# EAGLE library part DIL16 (library 1A-meinLib)
Dual In Line / Socket
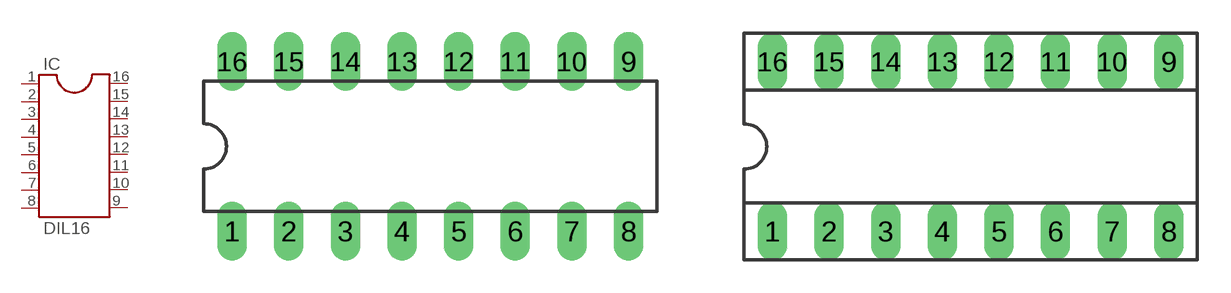
[diagram p396: symbol with the pads of DIL16; footprints DIL16, SOCKET-16]

Designator prefix IC

## DIL16  [DIL16]
1  1  pas
2  2  pas
3  3  pas
4  4  pas
5  5  pas
6  6  pas
7  7  pas
8  8  pas
9  9  pas
10  10  pas
11  11  pas
12  12  pas
13  13  pas
14  14  pas
15  15  pas
16  16  pas

## DIL16S  [SOCKET-16]
Pads as for DIL16

## DIL16QSOP-16  [QSOP_16_PACKAGE]
Pads as for DIL16

## DIL16SOIC-16  [SOIC_16]
Pads as for DIL16

## DIL16QSOP-ADAPTER  [DIL16-ADAPTER-QSOP]
Pads as for DIL16

## DIL16SOIC16-ADAPTER  [DIL16-WIDE]
Pads as for DIL16

## Footprint DIL16 (pad centres in mm)
Dual In Line Package
drill 0.813 long: 1 -8.89,-3.81; 2 -6.35,-3.81; 3 -3.81,-3.81; 4 -1.27,-3.81; 5 1.27,-3.81; 6 3.81,-3.81; 7 6.35,-3.81; 8 8.89,-3.81; 9 8.89,3.81; 10 6.35,3.81; 11 3.81,3.81; 12 1.27,3.81; 13 -1.27,3.81; 14 -3.81,3.81; 15 -6.35,3.81; 16 -8.89,3.81

## Footprint SOCKET-16 (pad centres in mm)
Dual In Line Socket
drill 0.813 long: 1 -8.89,-3.81; 2 -6.35,-3.81; 3 -3.81,-3.81; 4 -1.27,-3.81; 5 1.27,-3.81; 6 3.81,-3.81; 7 6.35,-3.81; 8 8.89,-3.81; 9 8.89,3.81; 10 6.35,3.81; 11 3.81,3.81; 12 1.27,3.81; 13 -1.27,3.81; 14 -3.81,3.81; 15 -6.35,3.81; 16 -8.89,3.81

## Footprint QSOP_16_PACKAGE (pad centres in mm)
Package Outline QSOP, 16 Leads, (E16-1, E16-4, E16-5, E16-8F, E16M-1)
smd 1.6 x 0.356: 1 -2.667,2.223; 2 -2.667,1.587; 3 -2.667,0.953; 4 -2.667,0.318; 5 -2.667,-0.318; 6 -2.667,-0.953; 7 -2.667,-1.587; 8 -2.667,-2.223; 9 2.667,-2.223; 10 2.667,-1.587; 11 2.667,-0.953; 12 2.667,-0.318; 13 2.667,0.318; 14 2.667,0.953; 15 2.667,1.587; 16 2.667,2.223

## Footprint SOIC_16 (pad centres in mm)
smd 0.66 x 2.032: 1 -4.445,-5.105; 2 -3.175,-5.105; 3 -1.905,-5.105; 4 -0.635,-5.105; 5 0.635,-5.105; 6 1.905,-5.105; 7 3.175,-5.105; 8 4.445,-5.105; 9 4.445,5.105; 10 3.175,5.105; 11 1.905,5.105; 12 0.635,5.105; 13 -0.635,5.105; 14 -1.905,5.105; 15 -3.175,5.105; 16 -4.445,5.105

## Footprint DIL16-ADAPTER-QSOP (pad centres in mm)
drill 0.8 round: 1 -7.62,3.81; 2 -5.08,3.81; 3 -7.62,1.27; 4 -5.08,1.27; 5 -7.62,-1.27; 6 -5.08,-1.27; 7 -7.62,-3.81; 8 -5.08,-3.81; 9 7.62,-3.81; 10 10.16,-3.81; 11 7.62,-1.27; 12 10.16,-1.27; 13 7.62,1.27; 14 10.16,1.27; 15 7.62,3.81; 16 10.16,3.81

## Footprint DIL16-WIDE (pad centres in mm)
drill 0.813 long: 1 -11.43,-7.62; 2 -8.89,-7.62; 3 -6.35,-7.62; 4 -3.81,-7.62; 5 -1.27,-7.62; 6 1.27,-7.62; 7 3.81,-7.62; 8 6.35,-7.62; 9 6.35,7.62; 10 3.81,7.62; 11 1.27,7.62; 12 -1.27,7.62; 13 -3.81,7.62; 14 -6.35,7.62; 15 -8.89,7.62; 16 -11.43,7.62